# EAGLE library part DS3231 (library 000001)
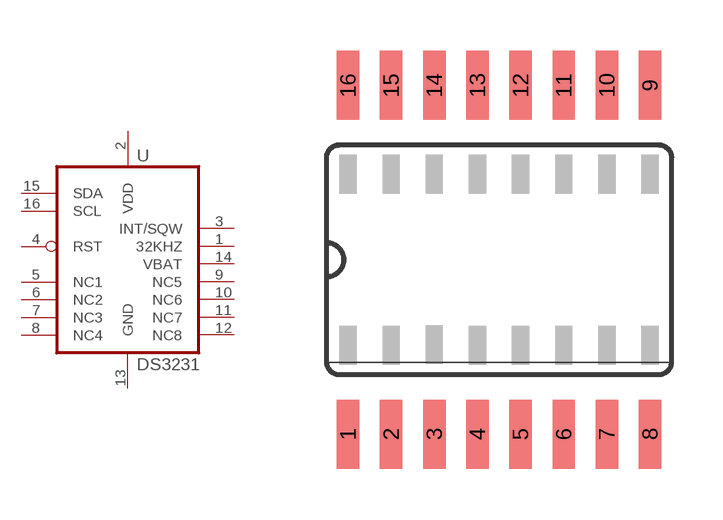
[diagram p15: symbol with the pads of SO16; footprint SO16]

Designator prefix -

## DS3231SO  [SO16]
1  32KHZ  out
2  VDD  pwr
3  INT/SQW  out
4  RST  in
5  NC1  in
6  NC2  in
7  NC3  in
8  NC4  in
9  NC5  in
10  NC6  in
11  NC7  in
12  NC8  in
13  GND  pwr
14  VBAT
15  SDA
16  SCL

## Footprint SO16 (pad centres in mm)
Small Outline Package .150 SIOC Source: http://www.maxim-ic.com/package_drawings/21-0041B.pdf
smd 0.66 x 2.032: 1 -4.445,-5.137; 2 -3.175,-5.137; 3 -1.905,-5.137; 4 -0.635,-5.137; 5 0.635,-5.137; 6 1.905,-5.137; 7 3.175,-5.137; 8 4.445,-5.137; 9 4.445,5.137; 10 3.175,5.137; 11 1.905,5.137; 12 0.635,5.137; 13 -0.635,5.137; 14 -1.905,5.137; 15 -3.175,5.137; 16 -4.445,5.137